# Altium footprint library Sykam-Mech1.PcbLib: 15 footprints (part 4 of 4)
Each footprint in its own frame and in the unit in brackets; x right, y up, seen from the top. Pads: shape width x height; smd on the part's side, far side on the other; paste and mask are expansions set on the pad; w line width, h text height; cw(c..) or ccw(c..) is an arc to the next point about the centre after c.
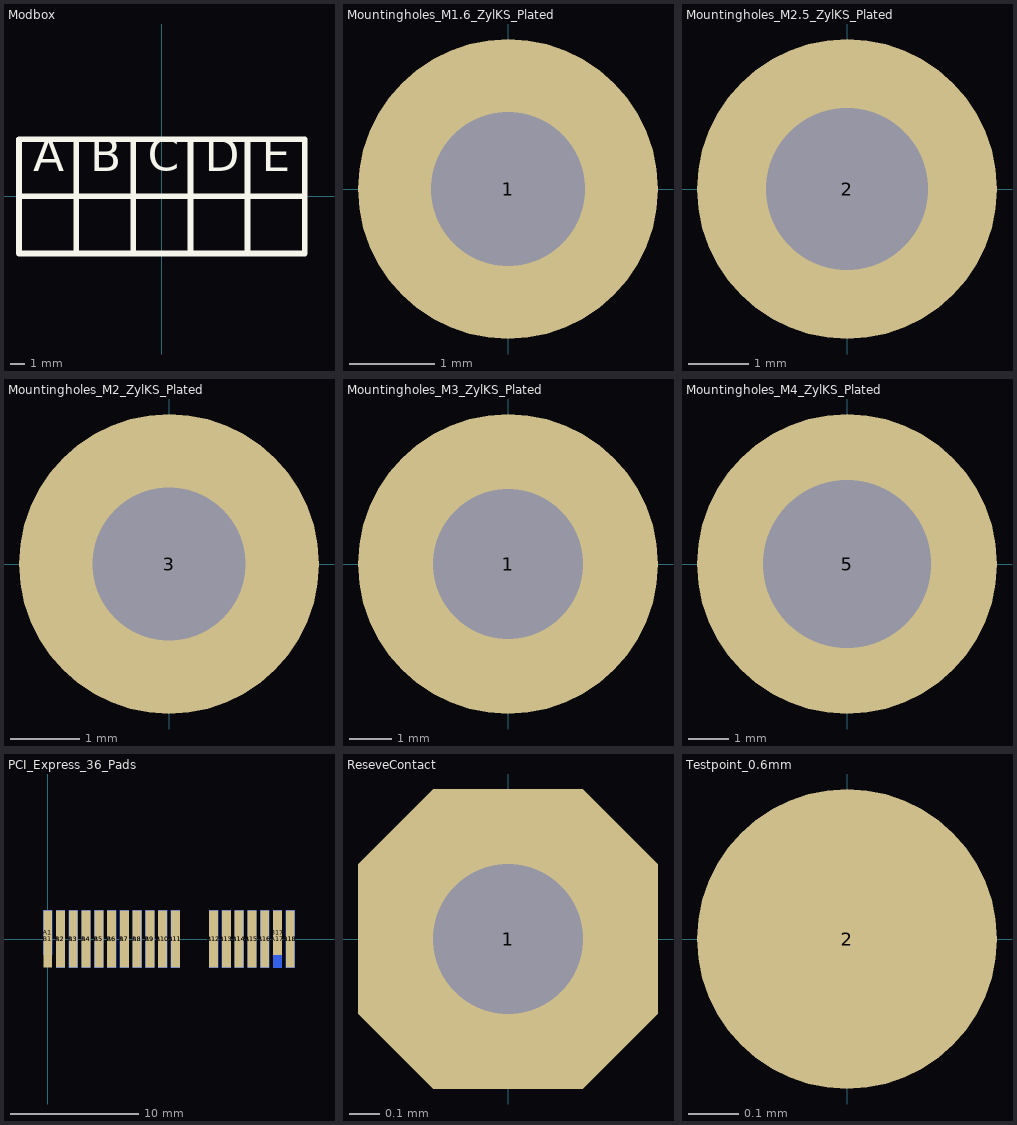
[diagram p3: the footprints below, top view; thin cyan lines are the x and y axes]

## Modbox [mm] "Modbox in Overlay"
Top Overlay:
  lines w0.4: -6,-4 -6,0 ; 6,-4 6,0 ; -10,0 0,0 10,0 ; -10,0 -10,-4 10,-4 10,0 ; -10,0 -10,4 0,4 10,4 10,0 ; -10,0 10,0 ; -6,0 -2,0 ; -6,0 -6,4 -2,4 -2,0 ; -2,0 -2,-4 2,-4 2,0 ; -2,0 2,0 ; 2,0 6,0 ; 2,0 2,4 6,4 6,0
  text "E" at 7,1 h4
  text "D" at 3,1 h4
  text "C" at -1,1.033 h4
  text "B" at -5,1 h4
  text "A" at -9,1 h4

## Mountingholes_M1.6_ZylKS_Plated [mm] "M1.6"
pads (1):
  round 3.5 hole 1.8: 1(0,0)

## Mountingholes_M2.5_ZylKS_Plated [mm] "M2.5"
pads (1):
  round 5 hole 2.7: 2(0,0)

## Mountingholes_M2_ZylKS_Plated [mm] "M2"
pads (1):
  round 4.3 hole 2.2: 3(0,0)

## Mountingholes_M3_ZylKS_Plated [mm] "M3"
pads (1):
  round 7 hole 3.5: 1(0,0)

## Mountingholes_M4_ZylKS_Plated [mm] "M4"
pads (1):
  round 7.5 hole 4.2: 5(0,0)

## PCI_Express_36_Pads [mm] "PCI Express PCB Pads 36"
pads (36):
  rect 0.7x3.5 smd far side paste-5: A1(0,0.5)
  rect 0.7x4.5 smd far side paste-5: A2(1,0) A3(2,0) A4(3,0) A5(4,0) A6(5,0) A7(6,0) A8(7,0) A9(8,0) A10(9,0) A11(10,0) A12(13,0) A13(14,0) A14(15,0) A15(16,0) A16(17,0) A17(18,0) A18(19,0)
  rect 0.7x4.5 smd paste-5: B1(0,0) B2(1,0) B3(2,0) B4(3,0) B5(4,0) B6(5,0) B7(6,0) B8(7,0) B9(8,0) B10(9,0) B11(10,0) B12(13,0) B13(14,0) B14(15,0) B15(16,0) B16(17,0) B18(19,0)
  rect 0.7x3.5 smd paste-5: B17(18,0.5)
Top Solder:
  rectangle: 12.5,-2.4 19.5,2.4
  rectangle: -0.5,-2.4 10.5,2.4
Bottom Solder:
  rectangle: -0.5,-2.4 10.5,2.4
  rectangle: 12.5,-2.4 19.5,2.4

## ReseveContact [mm] "Via 0.3mm"
pads (1):
  oct 1x1 hole 0.5: 1(0,0)

## Testpoint_0.6mm [mm] "d=1.5mm"
pads (1):
  round 0.6 smd paste-5 mask+0.1: 2(0,0)

## Version/Variant [mm] "Versions Nummer + Variant Overlay"
Top Overlay:
  text ".G_VersionNr" at 0,0 h2.5
  text ".VariantName" at 5.6,0.352 h2.5